# Altium footprint library Arduino_UNO.PcbLib: 2 footprints
Each footprint in its own frame and in the unit in brackets; x right, y up, seen from the top. Pads: shape width x height; smd on the part's side, far side on the other; paste and mask are expansions set on the pad; w line width, h text height; cw(c..) or ccw(c..) is an arc to the next point about the centre after c.
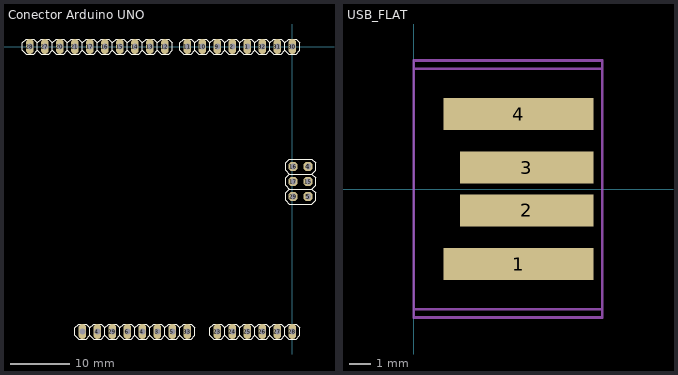
[diagram p0: the footprints below, top view; thin cyan lines are the x and y axes]

## Conector Arduino UNO [mil]
pads (38):
  oval 50x100 hole 40: 1(-300,0) 2(-400,0) 3(-900,-1900) 4(-1300,-1900) 4(-1000,-1900) 5(-800,-1900) 6(-1100,-1900) 9(-500,0) 10(-600,0) 11(-700,0) 12(-850,0) 13(-950,0) 14(-1050,0) 15(-1150,0) 16(-1250,0) 17(-1350,0) 20(-1550,0) 21(-1450,0) 23(-500,-1900) 24(-400,-1900) 25(-300,-1900) 26(-200,-1900) 27(-1650,0) 27(-100,-1900) 28(-1750,0) 28(0,-1900) 29(-1200,-1900) 30(0,0) 31(-100,0) 32(-200,0) 33(-700,-1900) ""(-1400,-1900)
  oct 61.02x61.02 hole 37.4: 4(105,-800) 5(105,-1000) 15(105,-900) 16(5,-800) 17(5,-900) 29(5,-1000)
Top Overlay:
  drawing of 250 lines, arcs and shapes, not listed

## USB_FLAT [mm]
pads (4):
  rect 7x1.5 smd: 1(4.9,-3.5) 4(4.9,3.5)
  rect 6.25x1.5 smd: 2(5.275,-1) 3(5.275,1)
Mechanical 11:
  lines w0.128: 0,-6 8.8,-6 8.8,6 0,6 0,-6
Mechanical 13:
  lines w0.128: 0,-5.61 8.8,-5.61 8.8,5.61 0,5.61 0,-5.61